# EAGLE library part STAC_DRV8833CRTER (library STAC)
Dual H-Bridge Motor Driver
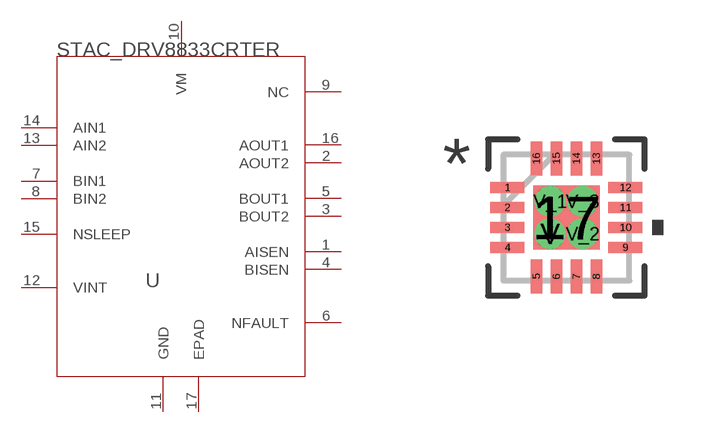
[diagram p15: symbol with the pads of STAC_RTE16_1P66X1P66; footprint STAC_RTE16_1P66X1P66]

Designator prefix U

## STAC_DRV8833CRTER (AUTHOR: Ultra-Librarian; CHECKED: Kevin Zheng; DIGI-KEY_PN: 296-40079-1-ND; MANUFACTURER_PART_NUMBER: DRV8833CRTER; VENDOR: Texas Instruments)  [STAC_RTE16_1P66X1P66]
1  AISEN  out
2  AOUT2  out
3  BOUT2  out
4  BISEN  out
5  BOUT1  out
6  NFAULT  out
7  BIN1  in
8  BIN2  in
9  NC  nc
10  VM  pwr
11  GND  pwr
12  VINT  pas
13  AIN2  in
14  AIN1  in
15  NSLEEP  in
16  AOUT1  out
17  EPAD  pas

## Footprint STAC_RTE16_1P66X1P66 (pad centres in mm)
smd 0.85 x 0.28: 1 -1.475,0.75; 2 -1.475,0.25; 3 -1.475,-0.25; 4 -1.475,-0.75; 9 1.475,-0.75; 10 1.475,-0.25; 11 1.475,0.25; 12 1.475,0.75
smd 0.28 x 0.85: 5 -0.75,-1.475; 6 -0.25,-1.475; 7 0.25,-1.475; 8 0.75,-1.475; 13 0.75,1.475; 14 0.25,1.475; 15 -0.25,1.475; 16 -0.75,1.475
smd 1.66 x 1.6: 17 0,0
drill 0.254 pad 0.508: V -0.406,-0.406; V_1 -0.406,0.406; V_2 0.406,-0.406; V_3 0.406,0.406